# Altium schematic symbol library HMC5983.Schlib: 1 symbol
Pins are listed as number, name and electrical type; pins without a type are passive.

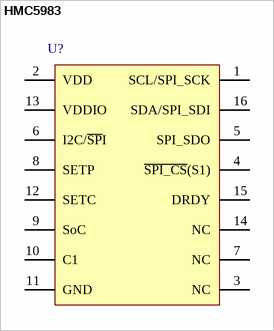
[diagram p0: symbol HMC5983]

## HMC5983
designator U?  (value not drawn)
3-Axis Digital Compass IC
pins: 1 SCL/SPI_SCK, 2 VDD, 3 NC, 4 ~{SPI_CS}(S1), 5 SPI_SDO, 6 I2C/~{SP}I, 7 NC, 8 SETP, 9 SoC, 10 C1, 11 GND, 12 SETC, 13 VDDIO, 14 NC, 15 DRDY, 16 SDA/SPI_SDI